# EAGLE library part TRAFO-BLOCK-VB-2XSEKUNDAER (library 1A-meinLib)
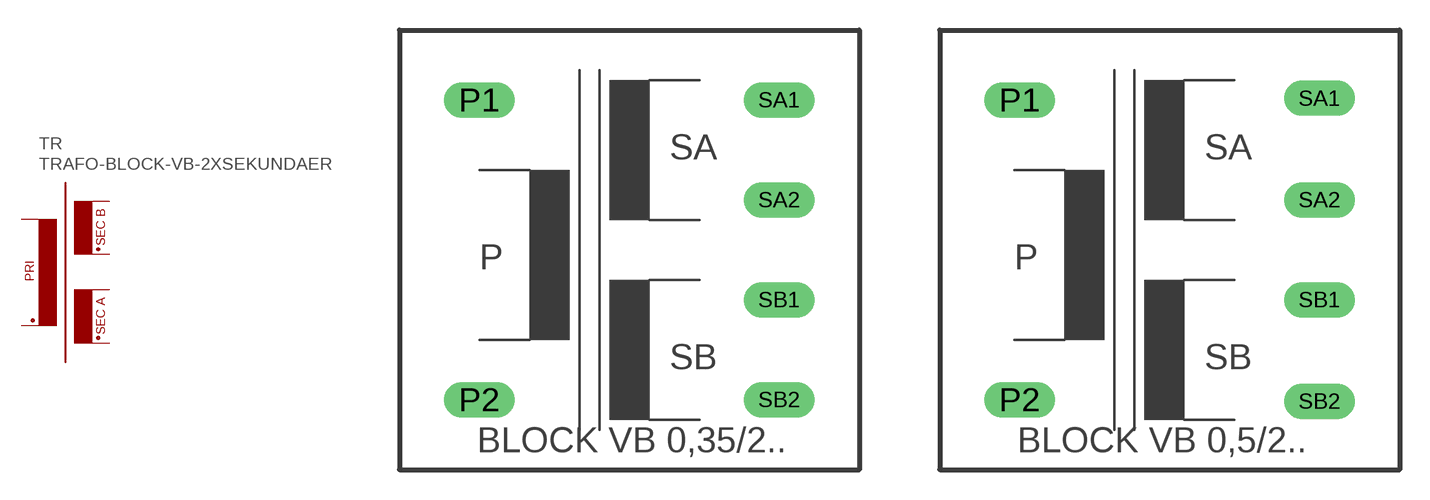
[diagram p178: symbol with the pads of TRAFO-BLOCK-VB-0.35/2; footprints TRAFO-BLOCK-VB-0.35/2, TRAFO-BLOCK-VB-0,5/2]

Designator prefix TR

## TRAFO-BLOCK-VB-2XSEKUNDAER-VB-0,35/2  [TRAFO-BLOCK-VB-0.35/2]
P1  P1  pas
P2  P2  pas
SA1  SB2  pas
SA2  SB1  pas
SB1  SA2  pas
SB2  SA1  pas

## TRAFO-BLOCK-VB-2XSEKUNDAER-VB-0,5/2  [TRAFO-BLOCK-VB-0,5/2]
Pads as for TRAFO-BLOCK-VB-0.35/2

## TRAFO-BLOCK-VB-2XSEKUNDAER-VB-1,0/2  [TRAFO-BLOCK-VB-1,0/2]
P1  P1  pas
P2  P2  pas
SA1  SA1  pas
SA2  SA2  pas
SB1  SB1  pas
SB2  SB2  pas

## TRAFO-BLOCK-VB-2XSEKUNDAER-VB-1,2/2  [TRAFO-BLOCK-VB-1,2/2]
Pads as for TRAFO-BLOCK-VB-0.35/2

## TRAFO-BLOCK-VB-2XSEKUNDAER-VB-1,5/2  [TRAFO-BLOCK-VB-1,5/2]
Pads as for TRAFO-BLOCK-VB-0.35/2

## TRAFO-BLOCK-VB-2XSEKUNDAER-VB-2,0/2  [TRAFO-BLOCK-VB-2,0/2]
Pads as for TRAFO-BLOCK-VB-0.35/2

## TRAFO-BLOCK-VB-2XSEKUNDAER-VB-2,3/2  [TRAFO-BLOCK-VB-2,3/2]
Pads as for TRAFO-BLOCK-VB-0.35/2

## TRAFO-BLOCK-VB-2XSEKUNDAER-VB-2,8/2  [TRAFO-BLOCK-VB-2,8/2]
Pads as for TRAFO-BLOCK-VB-0.35/2

## TRAFO-BLOCK-VB-2XSEKUNDAER-VB-3,2/2  [TRAFO-BLOCK-VB-3,2/2]
Pads as for TRAFO-BLOCK-VB-0.35/2

## Footprint TRAFO-BLOCK-VB-0.35/2 (pad centres in mm)
0.35W, 15mm hoch
drill 1 pad 1.778 long: P1 -7.5,7.5; P2 -7.5,-7.5; SA1 7.5,7.5; SA2 7.5,2.5; SB1 7.5,-2.5; SB2 7.5,-7.5

## Footprint TRAFO-BLOCK-VB-0,5/2 (pad centres in mm)
0.5W, 19mm hoch, 2x sekundär
drill 1 pad 1.778 long: P1 -6.23,7.5; P2 -6.23,-7.5; SA1 8.77,7.58; SA2 8.77,2.5; SB1 8.77,-2.5; SB2 8.77,-7.58

## Footprint TRAFO-BLOCK-VB-1,0/2 (pad centres in mm)
1W, 22mm hoch
drill 1 pad 1.778 long: P1 -10,10; P2 -10,-10; SA1 10,10; SA2 10,5; SB1 10,-5; SB2 10,-10

## Footprint TRAFO-BLOCK-VB-1,2/2 (pad centres in mm)
1.2W, 24mm hoch
drill 1 pad 1.778 long: P1 -10,10; P2 -10,-10; SA1 10,10; SA2 10,5; SB1 10,-5; SB2 10,-10

## Footprint TRAFO-BLOCK-VB-1,5/2 (pad centres in mm)
1.5W, 24mm hoch
drill 1 pad 1.778 long: P1 -10,10; P2 -10,-10; SA1 10,10; SA2 10,5; SB1 10,-5; SB2 10,-10

## Footprint TRAFO-BLOCK-VB-2,0/2 (pad centres in mm)
2W, 27mm hoch
drill 1.2 long: P1 -10,10; P2 -10,-10; SA1 10,10; SA2 10,5; SB1 10,-5; SB2 10,-10

## Footprint TRAFO-BLOCK-VB-2,3/2 (pad centres in mm)
2.3W, 29mm hoch
drill 1.2 long: P1 -10,10; P2 -10,-10; SA1 10,10; SA2 10,5; SB1 10,-5; SB2 10,-10

## Footprint TRAFO-BLOCK-VB-2,8/2 (pad centres in mm)
2.8W, 34mm hoch
drill 1.2 long: P1 -10,9.98; P2 -10,-10.02; SA1 10,9.98; SA2 10,4.98; SB1 10,-5.02; SB2 10,-10.02

## Footprint TRAFO-BLOCK-VB-3,2/2 (pad centres in mm)
3.2W, 31mm hoch
drill 1.2 pad 1.778 long: P1 -12.5,10
drill 1.2 long: P2 -12.5,-10; SA1 12.5,10; SA2 12.5,5; SB1 12.5,-5; SB2 12.5,-10